# Altium schematic symbol library molex_pcb_headers.SchLib: 2 symbols
Pins are listed as number, name and electrical type; pins without a type are passive.

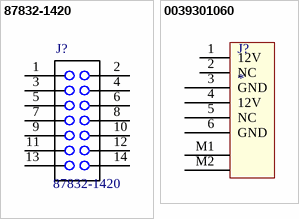
[diagram p0: symbols 87832-1420 to 0039301060]

## 87832-1420
designator J?
HEADER, 14WAY; Connector Type: Wire to Board; Series: 87832; Contact Material: Phosphor Bronze; Manufacturer: Molex; Manufacturer Part Number: 0878321420; SnapEDA_Link: https://www.snapeda.com/parts/87832-1420/Molex/view-part/?ref=snap; Manufacturer Link: https://www.molex.com/molex/products/datasheet.jsp?part=active/0878321420_PCB_HEADERS.xml&channel=Products&Lang=en-US; Supplier1: Digikey; Supplier Link 1: https://www.digikey.ca/product-detail/en/molex/0878321420/WM18641-ND/662451; Supplier Part Number 1: WM18641-ND; Supplier Price 1: 1=2.66000; 10=2.40900; 100=2.06520; 500=$1.72090; 3,200=$1.37672; 6,400=$1.30788 (CAD); Supplier Quantity 1: 56,417
footprint MOLEX_87832-1420
pins: 1, 2, 3, 4, 5, 6, 7, 8, 9, 10, 11, 12, 13, 14

## 0039301060
designator J?
CONN HEADER R/A 6POS 4.2MM; Manufacturer: Molex; Manufacturer Part Number: 0039301060; Pricing1: 1  1.41000  $1.41  10  1.25000  $12.50  100  1.07790  $107.79  500  0.88194  $440.97  1,000  0.78394  $783.94  5,000  0.68595  $3,429.73  10,000  0.65165  $6,516.48 (CAD); Supplier Link 1: https://www.digikey.ca/product-detail/en/molex/0039301060/WM1353-ND/561080; Supplier1: Digikey; Supplier Part Number 1: WM1353-ND; Stock1: 8,844; ComponentLink1URL: https://www.molex.com/pdm_docs/sd/039301060_sd.pdf; ComponentLink1Description: Datasheet
footprint 0039301060
pins: 1 12V, 2 NC, 3 GND, 4 12V, 5 NC, 6 GND, M1, M2